# Altium footprint library DP83848QSQE.PcbLib: 1 footprints
Each footprint in its own frame and in the unit in brackets; x right, y up, seen from the top. Pads: shape width x height; smd on the part's side, far side on the other; paste and mask are expansions set on the pad; w line width, h text height; cw(c..) or ccw(c..) is an arc to the next point about the centre after c.
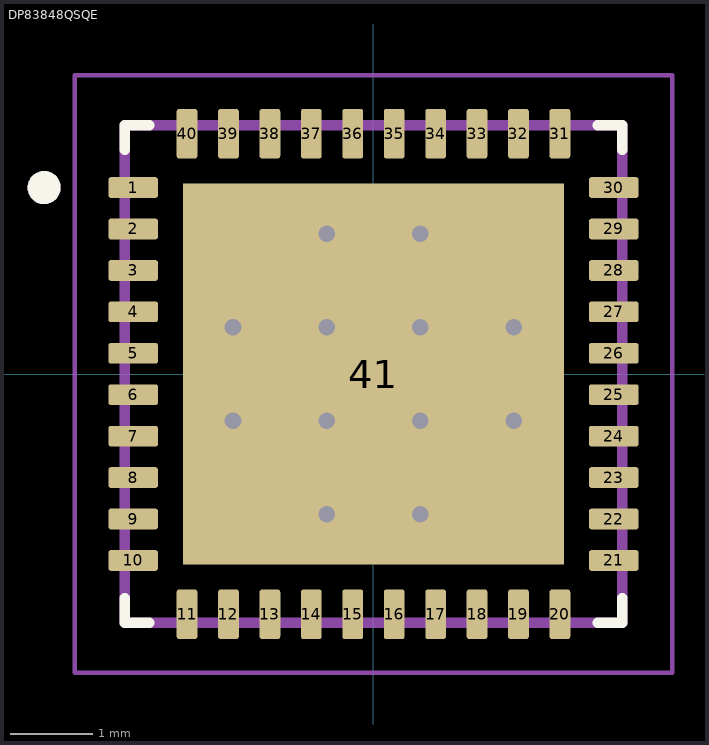
[diagram p0: the footprint, top view; thin cyan lines are the x and y axes]

## DP83848QSQE [mm]
height 1
pads (41):
  rrect25% 0.6x0.25 smd mask+0.07: 1(-2.9,2.25) 2(-2.9,1.75) 3(-2.9,1.25) 4(-2.9,0.75) 5(-2.9,0.25) 6(-2.9,-0.25) 7(-2.9,-0.75) 8(-2.9,-1.25) 9(-2.9,-1.75) 10(-2.9,-2.25) 21(2.9,-2.25) 22(2.9,-1.75) 23(2.9,-1.25) 24(2.9,-0.75) 25(2.9,-0.25) 26(2.9,0.25) 27(2.9,0.75) 28(2.9,1.25) 29(2.9,1.75) 30(2.9,2.25)
  rrect25% 0.25x0.6 smd mask+0.07: 11(-2.25,-2.9) 12(-1.75,-2.9) 13(-1.25,-2.9) 14(-0.75,-2.9) 15(-0.25,-2.9) 16(0.25,-2.9) 17(0.75,-2.9) 18(1.25,-2.9) 19(1.75,-2.9) 20(2.25,-2.9) 31(2.25,2.9) 32(1.75,2.9) 33(1.25,2.9) 34(0.75,2.9) 35(0.25,2.9) 36(-0.25,2.9) 37(-0.75,2.9) 38(-1.25,2.9) 39(-1.75,2.9) 40(-2.25,2.9)
  rect 4.6x4.6 smd paste-3 mask+0.07: 41(0,0)
via 0.565,-1.695 diameter 0.4 hole 0.2
via -0.565,-1.695 diameter 0.4 hole 0.2
via 1.695,-0.565 diameter 0.4 hole 0.2
via 0.565,-0.565 diameter 0.4 hole 0.2
via -0.565,-0.565 diameter 0.4 hole 0.2
via -1.695,-0.565 diameter 0.4 hole 0.2
via -1.695,0.565 diameter 0.4 hole 0.2
via -0.565,1.695 diameter 0.4 hole 0.2
via -0.565,0.565 diameter 0.4 hole 0.2
via 0.565,1.695 diameter 0.4 hole 0.2
via 1.695,0.565 diameter 0.4 hole 0.2
via 0.565,0.565 diameter 0.4 hole 0.2
Top Overlay:
  circle w0.2: c-3.975,2.25 r0.1
  lines w0.127: -3,-2.705 -3,-3 -2.705,-3 ; -3,2.705 -3,3 -2.705,3 ; 2.705,-3 3,-3 3,-2.705 ; 2.705,3 3,3 3,2.705
Top Paste:
  region: 1.885,-1.885 0.425,-1.885 0.425,-0.425 1.885,-0.425
  region: -0.425,-1.885 -1.885,-1.885 -1.885,-0.425 -0.425,-0.425
  region: 1.885,0.425 0.425,0.425 0.425,1.885 1.885,1.885
  region: -0.425,0.425 -1.885,0.425 -1.885,1.885 -0.425,1.885
Mechanical 13:
  circle w0.2: c-3.975,2.25 r0.1
  lines w0.127: -3,-3 -3,3 3,3 3,-3 -3,-3
Mechanical 15:
  lines w0.05: -3.605,-3.605 -3.605,3.605 3.605,3.605 3.605,-3.605 -3.605,-3.605
3D body "step_temp.STEP": height 0.8, standoff 0, extent -3,-3 3,3